# EAGLE library part W25Q80BVSSIG (library jobygnss)
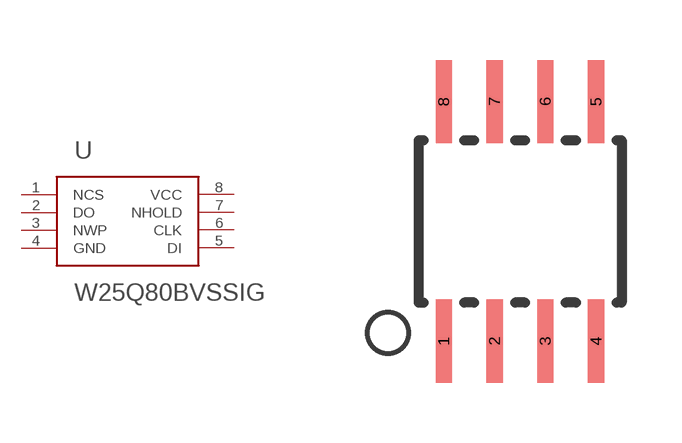
[diagram p3: symbol with the pads of W25Q; footprint W25Q]

Designator prefix -

## W25Q80BVSSIG  [W25Q]
1  NCS
2  DO
3  NWP
4  GND
5  DI
6  CLK
7  NHOLD
8  VCC

## Footprint W25Q (pad centres in mm)
smd 0.406 x 2.083: 1 -1.905,-2.997; 2 -0.635,-2.997; 3 0.635,-2.997; 4 1.905,-2.997; 5 1.905,2.997; 6 0.635,2.997; 7 -0.635,2.997; 8 -1.905,2.997